# Altium schematic symbol library LPF_SMD_FV1206.SchLib: 1 symbol
Pins are listed as number, name and electrical type; pins without a type are passive.

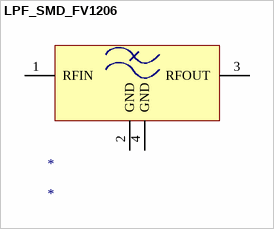
[diagram p0: symbol LPF_SMD_FV1206]

## LPF_SMD_FV1206
designator *
pins: 1 RFIN, 2 GND, 3 RFOUT, 4 GND